# Altium footprint library 滤波器.PcbLib: 1 footprints
Each footprint in its own frame and in the unit in brackets; x right, y up, seen from the top. Pads: shape width x height; smd on the part's side, far side on the other; paste and mask are expansions set on the pad; w line width, h text height; cw(c..) or ccw(c..) is an arc to the next point about the centre after c.
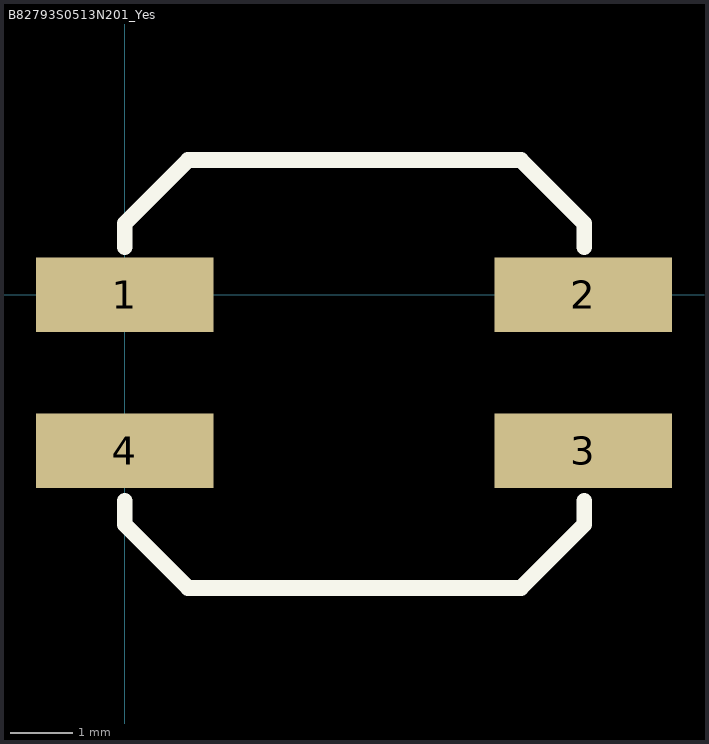
[diagram p0: the footprint, top view; thin cyan lines are the x and y axes]

## B82793S0513N201_Yes [mm]
pads (4):
  rect 2.85x1.2 smd: 1(0,0) 2(7.35,0) 3(7.35,-2.5) 4(0,-2.5)
Top Overlay:
  lines w0.254: 0,-3.302 0,-3.683 1.016,-4.699 6.35,-4.699 7.366,-3.683 7.366,-3.302 ; 0,0.762 0,1.143 1.016,2.159 6.35,2.159 7.366,1.143 7.366,0.762